# Altium schematic symbol library Schlib1.SchLib: 36 symbols
Pins are listed as number, name and electrical type; pins without a type are passive.

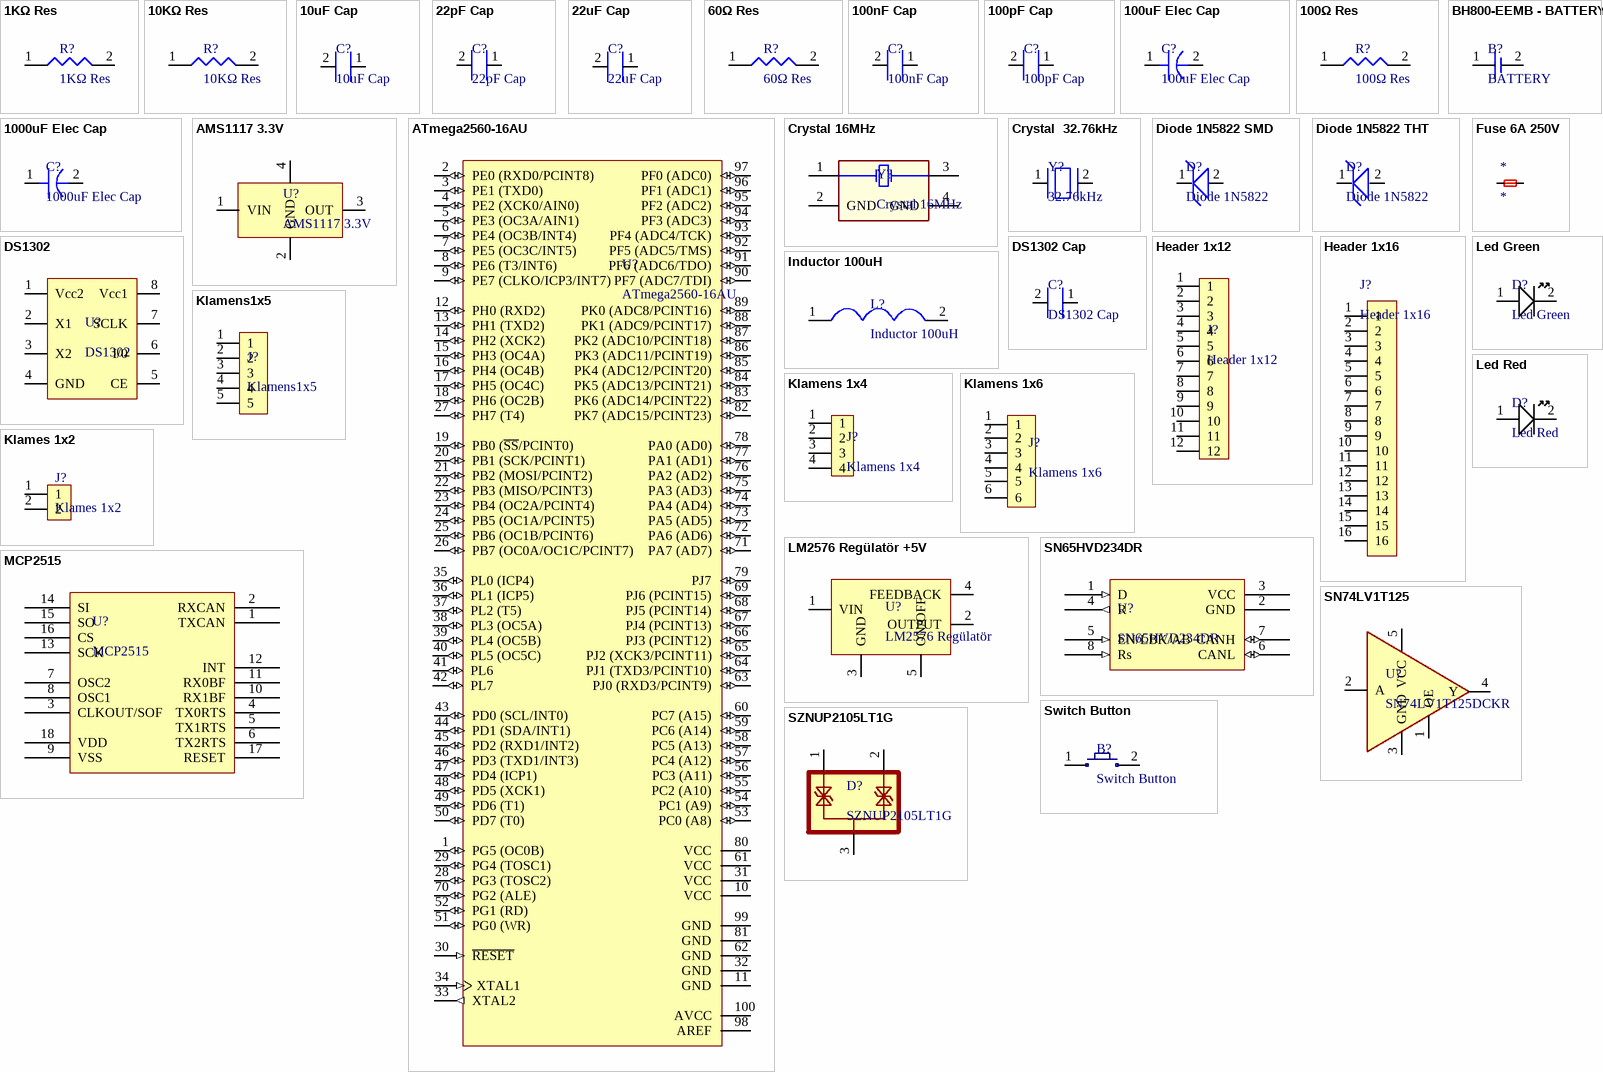
[diagram p0: symbols 1KΩ Res to SZNUP2105LT1G]

## 1KΩ Res
designator R?
1KΩ Res 0603 - 1608; ComponentLink1Description: Satın Alma Linki; ComponentLink1URL: https://www.ozdisan.com/pasif-komponentler/direncler/smt-smd-ve-cip-direncler/TC0325B1001T5C; ComponentLink2Description: Datasheet; ComponentLink2URL: https://cdn.ozdisan.com/ETicaret_Dosya/399380_9872459.pdf
footprint Res 0603 - 1608
pins: 1, 2

## 10KΩ Res
designator R?
10KΩ Res 0603 - 1608; ComponentLink1Description: Satın Alma Linki; ComponentLink1URL: https://www.ozdisan.com/pasif-komponentler/direncler/smt-smd-ve-cip-direncler/TC0325B1002T5C; ComponentLink2Description: Datasheet; ComponentLink2URL: https://cdn.ozdisan.com/ETicaret_Dosya/570122_9878629.pdf
footprint Res 0603 - 1608
pins: 1, 2

## 10uF Cap
designator C?
10uF Cap 0603 - 1608; ComponentLink1Description: Satın Alma Linki; ComponentLink1URL: https://ozdisan.com/pasif-komponentler/kondansatorler/smt-smd-ve-mlcc-kondansatorler/CL10A106MQ8NNNC; ComponentLink2Description: Datashhet; ComponentLink2URL: https://cdn.ozdisan.com/ETicaret_Dosya/484780_3856065.pdf
footprint Cap 0603 - 1608
pins: 1, 2

## 22pF Cap
designator C?
22pF Cap 0603 - 1608; ComponentLink1Description: Satın Alma Linki; ComponentLink1URL: https://ozdisan.com/pasif-komponentler/kondansatorler/smt-smd-ve-mlcc-kondansatorler/CL10C220JB8NNNC; ComponentLink2Description: Datashhet; ComponentLink2URL: https://cdn.ozdisan.com/ETicaret_Dosya/484780_3856065.pdf
footprint Cap 0603 - 1608
pins: 1, 2

## 22uF Cap
designator C?
22uF Cap 0603 - 1608; ComponentLink1Description: Satın Alma Linki; ComponentLink1URL: https://ozdisan.com/pasif-komponentler/kondansatorler/smt-smd-ve-mlcc-kondansatorler/CL10A226MQ8NRNC; ComponentLink2Description: Datashhets; ComponentLink2URL: https://cdn.ozdisan.com/ETicaret_Dosya/484780_3856065.pdf
footprint Cap 0603 - 1608
pins: 1, 2

## 60Ω Res
designator R?
60Ω Res 0603 - 1608; ComponentLink1Description: Satın Alma Linki; ComponentLink1URL: https://www.direnc.net/56r-805-kilif-direnc-100-adet; ComponentLink2Description: Datasheet; ComponentLink2URL: https://cdn.ozdisan.com/ETicaret_Dosya/399380_9872459.pdf
footprint Res 0805 - 2012
pins: 1, 2

## 100nF Cap
designator C?
100pF Cap 0603 - 1608; ComponentLink1Description: Satın Alma Linki; ComponentLink1URL: https://ozdisan.com/pasif-komponentler/kondansatorler/smt-smd-ve-mlcc-kondansatorler/CL10F104ZA8NNNC; ComponentLink2Description: Datashhet; ComponentLink2URL: https://cdn.ozdisan.com/ETicaret_Dosya/484780_3856065.pdf
footprint Cap 0603 - 1608
pins: 1, 2

## 100pF Cap
designator C?
100pF Cap 0603 - 1608; ComponentLink1Description: Satın Alma Linki; ComponentLink1URL: https://ozdisan.com/pasif-komponentler/kondansatorler/smt-smd-ve-mlcc-kondansatorler/0603N101J500NT; ComponentLink2Description: Datashhet; ComponentLink2URL: https://cdn.ozdisan.com/ETicaret_Dosya/484780_3856065.pdf
footprint Cap 0603 - 1608
pins: 1, 2

## 100uF Elec Cap
designator C?
100uF 50V SMD Elektrolitik Kondansatör 8x10mm 85C; ComponentLink1Description: Satın Alma Linki; ComponentLink1URL: https://www.direnc.net/100uf50v-7x10-smd?language=tr&h=9e593fd0; ComponentLink2Description: Datashhet; ComponentLink2URL: https://cdn.ozdisan.com/ETicaret_Dosya/420197_9090778.pdf
footprint 100uF -  Elec Cap - CAPAE127P600-8N
pins: 1, 2

## 100Ω Res
designator R?
100Ω Res 0603 - 1608; ComponentLink1Description: Satın Alma Linki; ComponentLink1URL: https://www.ozdisan.com/pasif-komponentler/direncler/smt-smd-direncler/0603SAF1000T5E; ComponentLink2Description: Datasheet; ComponentLink2URL: https://cdn.ozdisan.com/ETicaret_Dosya/570122_9878629.pdf
footprint Res 0603 - 1608
pins: 1, 2

## 1000uF Elec Cap
designator C?
MRW-016V102MG105-T/R - CAP.EL.1000uF 16V 10x10.5 105C 2000Hrs TB SMD; ComponentLink1Description: Satın Alma Linki; ComponentLink1URL: https://www.ozdisan.com/pasif-komponentler/kondansatorler/aluminyum-kondansatorler/MRW-016V102MG105-TR; ComponentLink2Description: Datasheet; ComponentLink2URL: https://cdn.ozdisan.com/ETicaret_Dosya/420197_9090778.pdf
footprint 1000uF Elec Cap -  CAPAE127P600-8N
pins: 1, 2

## AMS1117 3.3V
designator U?
AMS111733TR-HT - IC-1117 REG LDO 3.3V 1A SOT223; ComponentLink1Description: Satın Alma Linki; ComponentLink1URL: https://www.ozdisan.com/entegre-devreler-ics/guc-entegreleri/lineer-voltaj-regulatorleri/AMS111733TR-HT; ComponentLink2Description: Datasheet; ComponentLink2URL: https://cdn.ozdisan.com/ETicaret_Dosya/348307_6210366.pdf
footprint AMS1117 - SOT223127P600-8N
pins: 1 VIN, 2 GND, 3 OUT, 4

## ATmega2560-16AU
designator U?
ATmega2560-16AU - IC-2560 MCU 8BIT 256KB TQFP100 16MHZ ATMEL; ComponentLink1Description: Satın Alma Linki; ComponentLink1URL: https://www.ozdisan.com/entegre-devreler-ics/embedded-entegreler/mikroislemciler/ATMEGA2560-16AU; ComponentLink2Description: Datasheet; ComponentLink2URL: https://cdn.ozdisan.com/ETicaret_Dosya/409525_4637652.pdf
footprint ATmega 256016AU - TSQFP50P1600X1600X120-100N (TSQFP, 100-Leads, Body 14,00x14,00mm, Pitch 0,50mm, IPC Medium Density)
pins: 1 PG5 (OC0B) (io), 2 PE0 (RXD0/PCINT8) (io), 3 PE1 (TXD0) (io), 4 PE2 (XCK0/AIN0) (io), 5 PE3 (OC3A/AIN1) (io), 6 PE4 (OC3B/INT4) (io), 7 PE5 (OC3C/INT5) (io), 8 PE6 (T3/INT6) (io), 9 PE7 (CLKO/ICP3/INT7) (io), 10 VCC (power), 11 GND (power), 12 PH0 (RXD2) (io), 13 PH1 (TXD2) (io), 14 PH2 (XCK2) (io), 15 PH3 (OC4A) (io), 16 PH4 (OC4B) (io), 17 PH5 (OC4C) (io), 18 PH6 (OC2B) (io), 19 PB0 (~{SS}/PCINT0) (io), 20 PB1 (SCK/PCINT1) (io), 21 PB2 (MOSI/PCINT2) (io), 22 PB3 (MISO/PCINT3) (io), 23 PB4 (OC2A/PCINT4) (io), 24 PB5 (OC1A/PCINT5) (io), 25 PB6 (OC1B/PCINT6) (io), 26 PB7 (OC0A/OC1C/PCINT7) (io), 27 PH7 (T4) (io), 28 PG3 (TOSC2) (io), 29 PG4 (TOSC1) (io), 30 ~{RESET} (in), 31 VCC (power), 32 GND (power), 33 XTAL2 (out), 34 XTAL1 (in), 35 PL0 (ICP4) (io), 36 PL1 (ICP5) (io), 37 PL2 (T5) (io), 38 PL3 (OC5A) (io), 39 PL4 (OC5B) (io), 40 PL5 (OC5C) (io), 41 PL6 (io), 42 PL7 (io), 43 PD0 (SCL/INT0) (io), 44 PD1 (SDA/INT1) (io), 45 PD2 (RXD1/INT2) (io), 46 PD3 (TXD1/INT3) (io), 47 PD4 (ICP1) (io), 48 PD5 (XCK1) (io), 49 PD6 (T1) (io), 50 PD7 (T0) (io), 51 PG0 (WR) (io), 52 PG1 (RD) (io), 53 PC0 (A8) (io), 54 PC1 (A9) (io), 55 PC2 (A10) (io), 56 PC3 (A11) (io), 57 PC4 (A12) (io), 58 PC5 (A13) (io), 59 PC6 (A14) (io), 60 PC7 (A15) (io), 61 VCC (power), 62 GND (power), 63 PJ0 (RXD3/PCINT9) (io), 64 PJ1 (TXD3/PCINT10) (io), 65 PJ2 (XCK3/PCINT11) (io), 66 PJ3 (PCINT12) (io), 67 PJ4 (PCINT13) (io), 68 PJ5 (PCINT14) (io), 69 PJ6 (PCINT15) (io), 70 PG2 (ALE) (io), 71 PA7 (AD7) (io), 72 PA6 (AD6) (io), 73 PA5 (AD5) (io), 74 PA4 (AD4) (io), 75 PA3 (AD3) (io), 76 PA2 (AD2) (io), 77 PA1 (AD1) (io), 78 PA0 (AD0) (io), 79 PJ7 (io), 80 VCC (power), 81 GND (power), 82 PK7 (ADC15/PCINT23) (io), 83 PK6 (ADC14/PCINT22) (io), 84 PK5 (ADC13/PCINT21) (io), 85 PK4 (ADC12/PCINT20) (io), 86 PK3 (ADC11/PCINT19) (io), 87 PK2 (ADC10/PCINT18) (io), 88 PK1 (ADC9/PCINT17) (io), 89 PK0 (ADC8/PCINT16) (io), 90 PF7 (ADC7/TDI) (io), 91 PF6 (ADC6/TDO) (io), 92 PF5 (ADC5/TMS) (io), 93 PF4 (ADC4/TCK) (io), 94 PF3 (ADC3) (io), 95 PF2 (ADC2) (io), 96 PF1 (ADC1) (io), 97 PF0 (ADC0) (io), 98 AREF (power), 99 GND (power), 100 AVCC (power)

## BH800-EEMB - BATTERY
designator B?, comment BATTERY
BH800-EEMB - BATTERY HOLDER BS-3 FOR CR2032 EEMB; ComponentLink1Description: Satın Alma Linki; ComponentLink1URL: https://ozdisan.com/bataryalar/batarya-aksesuarlari/pil-yuvalari/BH800-EEMB; ComponentLink2Description: Datasheet; ComponentLink2URL: https://cdn.ozdisan.com/ETicaret_Dosya/39723_7680678.PDF
pins: 1, 2

## Crystal 16MHz
designator Y?
ASX5F-16M-FE180C3 - CRYSTAL 16MHZ 18pF 5.0X3.2 SMD XTAL TR; ComponentLink1Description: Satın Alma Linki; ComponentLink1URL: https://www.ozdisan.com/pasif-komponentler/kristaller-osilatorler-ve-rezanatorler/kristaller/ASX5F-16M-FE180C3; ComponentLink2Description: Datasheet; ComponentLink2URL: https://cdn.ozdisan.com/ETicaret_Dosya/428915_5305162.pdf
footprint 16MHz OSC
pins: 1 (power) "Regulator Input Supply. Bypass IN to GND with a 1 uF or greater capacitor.", 2 GND (power) "Ground.", 3 "Enable Input. Drive EN high to turn on the regulator; drive it low to turn off the regulator. For automatic startup, connect EN to IN.", 4 GND "Connect a 1 nF or greater capacitor (10 nF is recommended) between BYP and GND to reduce the internal reference noise for low noise applications."

## Crystal  32.76kHz
designator Y?, comment 32.76kHz
RT2012-32.768-12.5-20-EX - CRYSTAL 32.7680kHz 12.5pF 20ppm; ComponentLink1Description: Satın Alma Linki; ComponentLink1URL: https://ozdisan.com/pasif-komponentler/kristaller-osilatorler-ve-rezanatorler/kristaller/RT2012-32-768-12-5-20-EX; ComponentLink2Description: Datasheet; ComponentLink2URL: https://cdn.ozdisan.com/ETicaret_Dosya/458859_8577242.PDF
footprint Crystal 32.7680kHz
pins: 1, 2

## Diode 1N5822 SMD
designator D?, comment Diode 1N5822
SS34 1N5822 SMD Schottky Diode 3A 40V; ComponentLink1Description: Satın Alma Linki; ComponentLink1URL: https://bbcelektronik.com/diyot-diod-cesitleri/diyot-ve-kopru-diyot/prd-1n5819-1-amper-40-volt-smd-diyot-schottky-diyot-ss14-bbc13770; ComponentLink2Description: Datashhets; ComponentLink2URL: http://www.kesenes.com/pdf/1n5817-1n5819.pdf
footprint Diode - 1N5819 SMD
pins: 1, 2

## Diode 1N5822 THT
designator D?, comment Diode 1N5822
1N5822-HT 3.0A Schottky Diyot - MİC; ComponentLink1Description: Satın Alma Linki; ComponentLink1URL: https://www.direnc.net/1n5822-ht-30-amp-schottky-barrier-rectifiers-hottech; ComponentLink2Description: Datasheet; ComponentLink2URL: https://cdn.ozdisan.com/ETicaret_Dosya/417251_1694308.pdf
footprint Diode - 1N5819
pins: 1, 2

## DS1302
designator U?
DS1302 - IC-1302 TIMEKEEPER T-CHARGE 8-DIP MAXIM; ComponentLink1Description: Satın Alma Linki; ComponentLink1URL: https://ozdisan.com/entegre-devreler-ics/zamanlama-entegreleri/gercek-zamanli-saat-entegreleri/DS1307ZNTR; ComponentLink2Description: Datasheet; ComponentLink2URL: https://cdn.ozdisan.com/ETicaret_Dosya/29185_6597768.pdf
footprint DS1302 - SOIC127P790X213-8N
pins: 1 Vcc2, 2 X1, 3 X2, 4 GND, 5 CE, 6 I/0, 7 SCLK, 8 Vcc1

## DS1302 Cap
designator C?
Cap 0603 - 1608; ComponentLink1Description: Satın Alma Linki; ComponentLink1URL: *; ComponentLink2Description: Datasheet; ComponentLink2URL: https://cdn.ozdisan.com/ETicaret_Dosya/29185_6597768.pdf
footprint Cap 0603 - 1608
pins: 1, 2

## Fuse 6A 250V
designator *
pins: 1, 2

## Header 1x12
designator J?
DS1021-1X16SF11 - PIN HEADER 16PIN(1X16) 2.54mm THT V/T; ComponentLink1Description: Satın Alma Linki; ComponentLink1URL: https://www.ozdisan.com/konnektor-ve-baglanti-elemanlari/konnektor-cesitleri/pcb-konnektorler/91614-412ALF; ComponentLink2Description: Datasheet; ComponentLink2URL: https://cdn.ozdisan.com/ETicaret_Dosya/346538_5354635.pdf
footprint Header 1x12 2.54mm
pins: 1, 2, 3, 4, 5, 6, 7, 8, 9, 10, 11, 12

## Header 1x16
designator J?
L-KLS1-207A-1-12-T - PIN HEADER 12PIN(1x12) 2.54mm SMT R/A; ComponentLink1Description: Satın Alma Linki; ComponentLink1URL: https://www.ozdisan.com/konnektor-baglanti-elemanlari/headers/pin-header/L-KLS1-207A-1-12-T; ComponentLink2Description: Datasheet; ComponentLink2URL: https://cdn.ozdisan.com/ETicaret_Dosya/475401_9310420.PDF
footprint Header 1x16 2.54mm
pins: 1, 2, 3, 4, 5, 6, 7, 8, 9, 10, 11, 12, 13, 14, 15, 16

## Inductor 100uH
designator L?
RLS-105 - INDUCTOR FIXED 100UH 1.02A 350MOHM SMT; ComponentLink1Description: Satın Alma Linki; ComponentLink1URL: https://www.ozdisan.com/pasif-komponentler/induktorler/sabit-induktorler/RLS-105; ComponentLink2Description: Datasheet; ComponentLink2URL: https://recom-power.com/pdf/Accessories/RLS-105.pdf
footprint Inductor
pins: 1, 2

## Klamens1x5
designator J?
5 Lİ 3,81 MM 90° YEŞİL TAKIM KLEMENS; ComponentLink1Description: Satın Alma Linki; ComponentLink1URL: https://www.hatfon.com/urun/5-li-3-81-mm-90deg-yesil-takim-klemens; ComponentLink2Description: Datasheet; ComponentLink2URL: https://cdn.ozdisan.com/ETicaret_Dosya/404173_7658398.pdf
footprint Klames 1x5 3.81
pins: 1, 2, 3, 4, 5

## Klamens 1x4
designator J?
4 LÜ 3,81 MM 90° YEŞİL TAKIM KLEMENS; ComponentLink1Description: Satın Alma Linki; ComponentLink1URL: https://www.hatfon.com/urun/4-lu-3-81-mm-90deg-yesil-takim-klemens; ComponentLink2Description: Datasheet; ComponentLink2URL: https://cdn.ozdisan.com/ETicaret_Dosya/404173_7658398.pdf
footprint Klames 1x4 3.81
pins: 1, 2, 3, 4

## Klamens 1x6
designator J?
6 LI 3,81 MM 90° YEŞİL TAKIM KLEMENS; ComponentLink1Description: Satın Alma Linki; ComponentLink1URL: https://www.hatfon.com/urun/6-li-3-81-mm-90deg-yesil-takim-klemens; ComponentLink2Description: Datasheet; ComponentLink2URL: https://cdn.ozdisan.com/ETicaret_Dosya/404173_7658398.pdf
footprint Klamens 1x6
pins: 1, 2, 3, 4, 5, 6

## Klames 1x2
designator J?
2 Lİ 3,81 MM 90° YEŞİL TAKIM KLEMENS; ComponentLink1Description: Satın Alma Linki; ComponentLink1URL: https://www.hatfon.com/urun/2-li-3-81-mm-90deg-yesil-takim-klemens; ComponentLink2Description: Datasheet; ComponentLink2URL: https://cdn.ozdisan.com/ETicaret_Dosya/404173_7658398.pdf
footprint Klames 1x2 3.81
pins: 1, 2

## Led Green
designator D?
27-21/GHC-YR2T1/3C - LED SMD 0603 GREEN 140-360mcd 130° WATER CLEAR; ComponentLink1Description: Satın Alma Linki; ComponentLink1URL: https://ozdisan.com/led-ve-aydinlatma-cozumleri/led-komponentler/sinyal-ledler-renkli/27-21GHC-YR2T13C; ComponentLink2Description: Datasheet; ComponentLink2URL: https://cdn.ozdisan.com/ETicaret_Dosya/602568_422056.pdf
footprint Led 0603
pins: 1, 2

## Led Red
designator D?
27-21/R6C-AP1Q2B/3C - LED SMD 0603 RED 45-112mcd 130° WATER CLEAR; ComponentLink1Description: Satın Alma Linki; ComponentLink1URL: https://ozdisan.com/led-ve-aydinlatma-cozumleri/led-komponentler/sinyal-ledler-renkli/27-21R6C-AP1Q2B3C; ComponentLink2Description: Datasheet; ComponentLink2URL: https://cdn.ozdisan.com/ETicaret_Dosya/602569_177145.pdf
footprint Led 0603
pins: 1, 2

## LM2576 Regülatör +5V
designator U?, comment LM2576 Regülatör
LM2576SX-5.0/NOPB - IC-2576 V.REG.3A 5V SIMPL.STEP-DOWN SMD TO-263 TI /; ComponentLink1Description: Satın Alma Linki; ComponentLink1URL: https://www.ozdisan.com/entegre-devreler-ics/guc-entegreleri/dc-dc-voltaj-regulatorleri/LM2576SX-5-0NOPB; ComponentLink2Description: Datasheet; ComponentLink2URL: https://cdn.ozdisan.com/ETicaret_Dosya/345979_1079437.pdf
footprint LM2576 - TO228P970-3N
pins: 1 VIN, 2 OUTPUT, 3 GND, 4 FEEDBACK, 5 ON/OFF

## MCP2515
designator U?
MCP2515 SOIC-18 SMD CAN Bus Entegresi; ComponentLink1Description: Satın Alma Linki; ComponentLink1URL: https://www.direnc.net/mcp2515-smd-can-interface-ic-w-spi-interface; ComponentLink2Description: Datasheet; ComponentLink2URL: https://pdf.direnc.net/upload/mcp2515-datasheet.pdf
footprint MCP2515 - SOIC
pins: 1 TXCAN, 2 RXCAN, 3 CLKOUT/SOF, 4 TX0RTS, 5 TX1RTS, 6 TX2RTS, 7 OSC2, 8 OSC1, 9 VSS, 10 RX1BF, 11 RX0BF, 12 INT, 13 SCK, 14 SI, 15 SO, 16 CS, 17 RESET, 18 VDD

## SN65HVD234DR
designator U?
SN65HVD234DR - IC-65HVD234 CAN TRANSCEIVER 3.3V 8-SOIC TI; ComponentLink1Description: Satın Alma Linki; ComponentLink1URL: https://ozdisan.com/Product/Detail/409114/SN74LVC1G125DBVR; ComponentLink2Description: Datasheet; ComponentLink2URL: https://cdn.ozdisan.com/ETicaret_Dosya/409114_5931861.pdf
footprint SN65HVD234DR - SOIC
pins: 1 D (in), 2 GND, 3 VCC, 4 R (out), 5 EN/LBK/AB (in), 6 CANL (io), 7 CANH (io), 8 Rs (in)

## SN74LV1T125
designator U?, comment SN74LV1T125DCKR
SN74LV1T125DCKR - IC-74LV1T125 BUFFER NON-INVERT SC70-5; ComponentLink1Description: Satın Alma Linki; ComponentLink1URL: https://ozdisan.com/Product/Detail/409114/SN74LVC1G125DBVR; ComponentLink2Description: Datashhet; ComponentLink2URL: https://cdn.ozdisan.com/ETicaret_Dosya/591530_4256725.pdf
footprint SN74LV1T125  SOT65P210X95-5N (SOT23, 5-Leads, Body 2,00x2,10mm, Pitch 0,65mm, IPC Medium Density)
pins: 1 OE, 2 A, 3 GND, 4 Y, 5 VCC

## Switch Button
designator B?
L-KLS7-TS3611-2.5-180-T - SWITCH TACT 3.65x6.10 2.50mm 180gF SMT V/T; ComponentLink1Description: Satın Alma Linki; ComponentLink1URL: https://www.ozdisan.com/Product/Detail/466204/L-KLS7-TS3611-2-5-180-T; ComponentLink2Description: Datasheet; ComponentLink2URL: https://cdn.ozdisan.com/ETicaret_Dosya/466204_2836822.pdf
footprint Switch Button
pins: 1, 2

## SZNUP2105LT1G
designator D?
SZNUP2105LT1G - DIODE TVS 350W 44VC SOT23 AUTOMOTIVE; ComponentLink1Description: Link; ComponentLink1URL: https://www.ozdisan.com/Product/Detail/462716/SZNUP2105LT1G; ComponentLink2Description: PDF; ComponentLink2URL: https://cdn.ozdisan.com/ETicaret_Dosya/412115_6981582.pdf
footprint SZNUP2105LT1G - SOT23 (SOT23, 3-Leads, Body 2,92x2,45mm, Pitch 0,95mm, IPC Medium Density)
pins: 1, 2, 3